# Altium schematic symbol library 5016.SchLib: 1 symbol
Pins are listed as number, name and electrical type; pins without a type are passive.

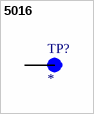
[diagram p0: symbol 5016]

## 5016
designator TP?
MP: 5016; MF: {'manufacturer': u'Keystone Electronics'}; Package: None; Value: *; Price: None; Availability: Unavailable
footprint KEYSTONE_5016
pins: TP